# EAGLE library part ATTINY85 (library SparkFun-IC-Microcontroller)
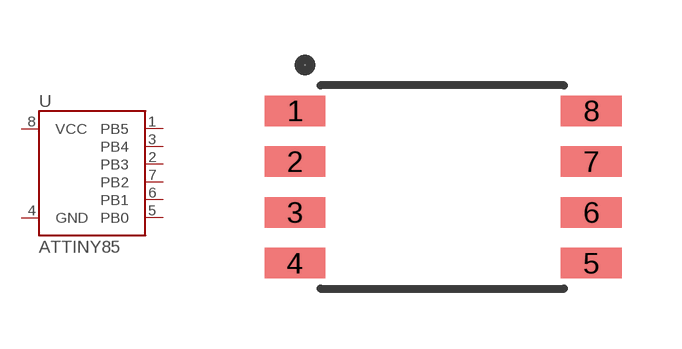
[diagram p32: symbol with the pads of ATTINY85; footprint ATTINY85]

Designator prefix U

## ATTINY85 (PROD_ID: IC-09092)  [ATTINY85]
1  PB5
2  PB3
3  PB4
4  GND
5  PB0
6  PB1
7  PB2
8  VCC

## Footprint ATTINY85 (pad centres in mm)
smd 1.524 x 0.762: 1 -3.683,1.905; 2 -3.683,0.635; 3 -3.683,-0.635; 4 -3.683,-1.905; 5 3.727,-1.905; 6 3.727,-0.635; 7 3.727,0.635; 8 3.727,1.905